# EAGLE library part 667101230108 (library WR-RAST)
WR-RAST Female Housing IDC 2.50/5.00 mm Characteristics Rated Current: 4 A Working Voltage: 32 V / 250 V UL approval: E323964 UL 94-V0 Operating temperature: -40°C up to +110°C Glow-Wire Compliancy Conform to IEC 60335-1 Tested at 750 °C and 850 °C Perform by third party laboratory Suitable for non-attended appliances and many other applications Applications White goods Unattended appliance <https://www.we-online.com/components/media/o870310v209%20Multi-WR-RAST2.5-667101210103.jpg> Details see: www.we-online.com/components/products/WR_RAST_IDC_FEMALE_HOUSING_IDC_2_50_5_00_MM <www.we-online.com/catalog/WR_RAST_IDC_FEMALE_HOUSING_IDC_2_50_5_00_MM/?utm_source=eagle_model&utm_medium=description_link&utm_campaign=eisos_eagle> Created by Ella Wu 2025-12-12 2025 (C) Würth Elektronik
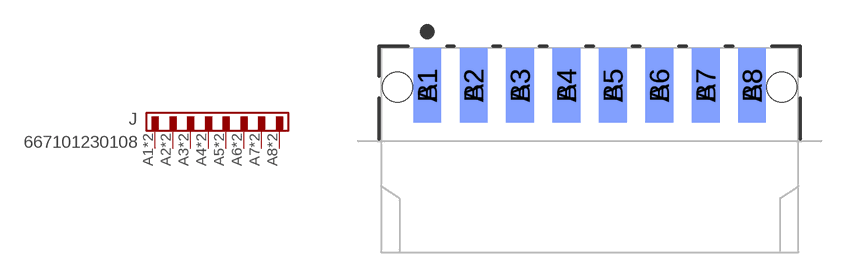
[diagram p15: symbol with the pads of 667101210108; footprint 667101210108]

Designator prefix J

## 667101230108 (CODING: OA; DATASHEET-URL: https://www.we-online.com/redexpert/spec/667101230108?ae; INSULATOR-MATERIAL: PA66; IR: 4A; PACKAGING: Tray; PART-NUMBER: 667101230108; PITCH: 2.5 mm; POLARITY: 08; VALUE: 667101230108)  [667101210108]
A1  1  pas
A2  2  pas
A3  3  pas
A4  4  pas
A5  5  pas
A6  6  pas
A7  7  pas
A8  8  pas
B1  1  pas
B2  2  pas
B3  3  pas
B4  4  pas
B5  5  pas
B6  6  pas
B7  7  pas
B8  8  pas

## Footprint 667101210108 (pad centres in mm)
WR-RAST Female Housing IDC 2.50/5.00 mm Pitch 2.5mm, 8pins
smd 1.5 x 4: A1 -8.75,0; A2 -6.25,0; A3 -3.75,0; A4 -1.25,0; A5 1.25,0; A6 3.75,0; A7 6.25,0; A8 8.75,0
smd 1.5 x 4 bottom: B1 -8.75,0; B2 -6.25,0; B3 -3.75,0; B4 -1.25,0; B5 1.25,0; B6 3.75,0; B7 6.25,0; B8 8.75,0
hole 1.6 at -10.35,-0.1
hole 1.6 at 10.35,-0.1